# EAGLE library part 613014143121 (library Board-to-Board (rev18a))
WR-PHD 2.54mm Angled Socket Header, 14 Pins =>Code : Con_BTB_SHD_2.54_1_THT_613014143121 <http://katalog.we-online.de/media/images/eican/Con_BTB_SHD_2.54_1_THT_6130xx143121_pf2.jpg> Details see: http://katalog.we-online.de/en/em/613_0xx_143_121 Created 2014-05-29, Karrer Zheng 2014 (C) Würth Elektronik
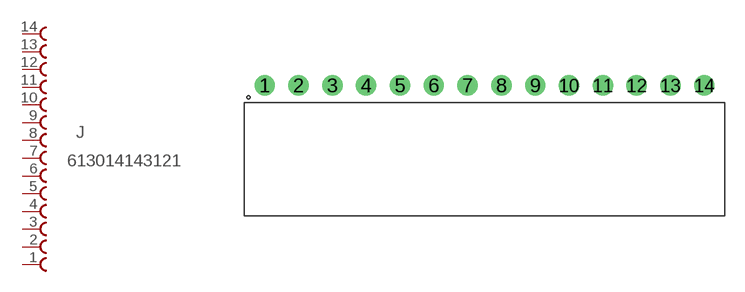
[diagram p134: symbol with the pads of 613014143121; footprint 613014143121]

Designator prefix J

## 613014143121  [613014143121]
1  14  pas
2  13  pas
3  12  pas
4  11  pas
5  10  pas
6  9  pas
7  8  pas
8  7  pas
9  6  pas
10  5  pas
11  4  pas
12  3  pas
13  2  pas
14  1  pas

## Footprint 613014143121 (pad centres in mm)
WR-PHD 2.54mm Angled Socket Header, 14 Pins
drill 1.02: 1 -16.51,0; 2 -13.97,0; 3 -11.43,0; 4 -8.89,0; 5 -6.35,0; 6 -3.81,0; 7 -1.27,0; 8 1.27,0; 9 3.81,0; 10 6.35,0; 11 8.89,0; 12 11.43,0; 13 13.97,0; 14 16.51,0